# EAGLE library part RJ11-5P-REEL (library _RJ11)
RJ11 5P REEL RJ11 1XN 5P assembly by CZT
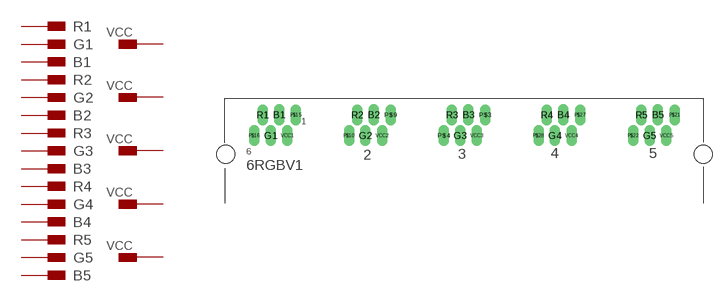
[diagram p0: symbol with the pads of RJ11-1XN-5P; footprint RJ11-1XN-5P]

Designator prefix -

## RJ11-5P-REEL-LIGHTPACK6T  [RJ11-1XN-5P]
B1  B4
B2  B5
B3  B3
B4  B2
B5  B1
G1  G4
G2  G5
G3  G3
G4  G2
G5  G1
R1  R4
R2  R5
R3  R3
R4  R2
R5  R1
VCC1  VCC4
VCC2  VCC5
VCC3  VCC3
VCC4  VCC2
VCC5  VCC1

## RJ11-5P-REEL-MAIN  [RJ11-1XN-5P]
B1  B1
B2  B2
B3  B3
B4  B4
B5  B5
G1  G1
G2  G2
G3  G3
G4  G4
G5  G5
R1  R1
R2  R2
R3  R3
R4  R4
R5  R5
VCC1  VCC1
VCC2  VCC2
VCC3  VCC3
VCC4  VCC4
VCC5  VCC5

## RJ11-5P-REEL-LIGHTPACK6T2  [RJ11-1XN-5P]
B1  B3
B2  B4
B3  B5
B4  B2
B5  B1
G1  G3
G2  G4
G3  G5
G4  G2
G5  G1
R1  R3
R2  R4
R3  R5
R4  R2
R5  R1
VCC1  VCC3
VCC2  VCC4
VCC3  VCC5
VCC4  VCC2
VCC5  VCC1

## Footprint RJ11-1XN-5P (pad centres in mm)
drill 0.8 pad 1.118 long: B1 -21.794,2.566; B2 -10.144,2.566; B3 1.506,2.566; B4 13.156,2.566; B5 24.806,2.566; G1 -22.814,0.006; G2 -11.164,0.006; G3 0.486,0.006; G4 12.136,0.006; G5 23.786,0.006; P$3 3.576,2.546; P$4 -1.534,0.006; P$9 -8.074,2.546; P$10 -13.184,0.006; P$15 -19.724,2.546; P$16 -24.834,0.006; P$21 26.876,2.546; P$22 21.766,0.006; P$27 15.226,2.546; P$28 10.116,0.006; R1 -23.824,2.546; R2 -12.174,2.546; R3 -0.524,2.546; R4 11.126,2.546; R5 22.776,2.546; VCC1 -20.754,0.006; VCC2 -9.104,0.006; VCC3 2.546,0.006; VCC4 14.196,0.006; VCC5 25.846,0.006
hole 2.2 at 30.39,-2.3
hole 2.2 at -28.36,-2.31